# Altium schematic symbol library LTC3786EMSE.Schlib: 1 symbol
Pins are listed as number, name and electrical type; pins without a type are passive.

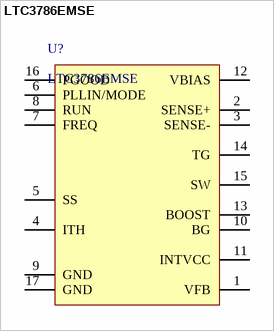
[diagram p0: symbol LTC3786EMSE]

## LTC3786EMSE
designator U?
IC REG CTRLR MULT TOP 16MSOP
pins: 1 VFB, 2 SENSE+, 3 SENSE-, 4 ITH, 5 SS, 6 PLLIN/MODE, 7 FREQ, 8 RUN, 9 GND, 10 BG, 11 INTVCC, 12 VBIAS, 13 BOOST, 14 TG, 15 SW, 16 PGOOD, 17 GND